# EAGLE library part FMZHA4?* (library rele)
RELAY
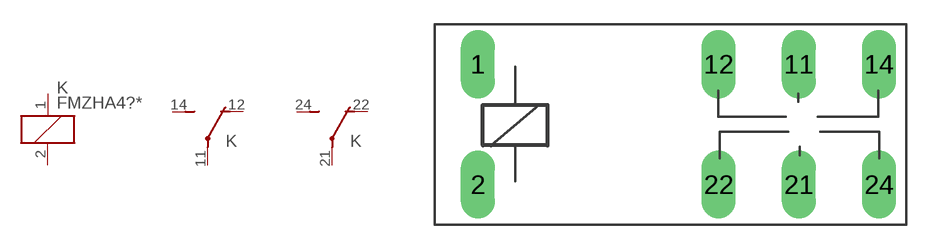
[diagram p24: symbol with the pads of MZPA; footprint MZPA]

Designator prefix K; gates G$1=K G$2=U G$3=U

## FMZHA4810  [MZPA]
1  G$1:1  pas
2  G$1:2  pas
11  G$2:P  pas
12  G$2:O  pas
14  G$2:S  pas
21  G$3:P  pas
22  G$3:O  pas
24  G$3:S  pas

## Footprint MZPA (pad centres in mm)
RELAY
drill 1.422 long: 1 -12,3.75; 2 -12,-3.75; 11 8,3.75; 12 3,3.75; 14 13,3.75; 21 8,-3.75; 22 3,-3.75; 24 13,-3.75